# Altium schematic symbol library LED.SchLib: 12 symbols
Pins are listed as number, name and electrical type; pins without a type are passive.

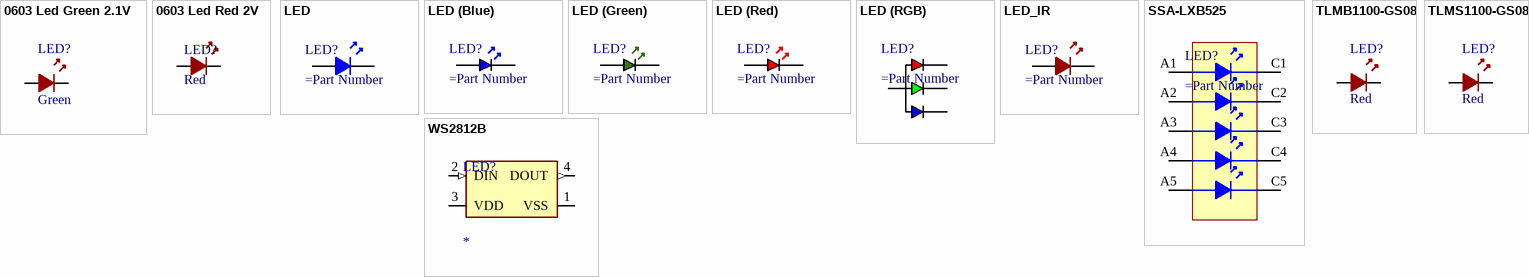
[diagram p0: symbols 0603 Led Green 2.1V to WS2812B]

## 0603 Led Green 2.1V
designator LED?, comment Green
Voltage - Forward (Vf) (Typ) 2.1V / Current - Test 20mA / Viewing Angle 120°; Case: 0603; Color: Green; Manufacturer: *; Supplier 1: Digi-Key; Supplier Part Number 1: 754-1116-1-ND
footprint 0603 Led
pins: A, C

## 0603 Led Red 2V
designator LED?, comment Red
Red 625nm LED / Indication - Discrete / 2V 0603; Manufacturer: Würth Elektronik; Color: Red; Supplier 1: Digi-Key; Supplier Part Number 1: 732-4978-1-ND; Case: 0603
footprint 0603 Led
pins: A, C

## LED
designator LED?
pins: A, C

## LED (Blue)
designator LED?
pins: A, C

## LED (Green)
designator LED?
pins: A, C

## LED (Red)
designator LED?
pins: A, C

## LED (RGB)
designator LED?
pins: 1, 2, 3, 4

## LED_IR
designator LED?
pins: A, C

## SSA-LXB525
designator LED?
pins: A1, A2, A3, A4, A5, C1, C2, C3, C4, C5

## TLMB1100-GS08
designator LED?, comment Red
Blue 466nm LED Indication / Discrete 3.9V 0603 (1608 Metric); Manufacturer: Würth Elektronik; Color: Red; Case: 0603; Supplier 1: Arrow Electronics; Supplier Part Number 1: TLMS1100-GS08; ComponentLink1Description: HelpURL; ComponentLink1URL: http://www.farnell.com/datasheets/2049164.pdf?src-supplier=Farnell
footprint 0603 Led
pins: A, C

## TLMS1100-GS08
designator LED?, comment Red
Red 633nm LED Indication / Discrete 2.1V 0603 (1608 Metric); Manufacturer: Würth Elektronik; Color: Red; Case: 0603; Supplier 1: Arrow Electronics; Supplier Part Number 1: TLMS1100-GS08; ComponentLink1Description: HelpURL; ComponentLink1URL: http://www.farnell.com/datasheets/2049164.pdf?src-supplier=Farnell
footprint 0603 Led
pins: A, C

## WS2812B
designator LED?
Input voltage VIN +5 / Logic input voltage VI -0.5～VDD+5.5; Manufacturer: Adafruit Industries; Supplier 1: Digi-Key; Supplier Part Number 1: 1528-1104-ND; Case: WS2812
footprint WS2812
pins: 1 VSS (power), 2 DIN (in), 3 VDD (power), 4 DOUT (out)